# Altium schematic symbol library Design III Symbols.SchLib: 83 symbols (part 2 of 2)
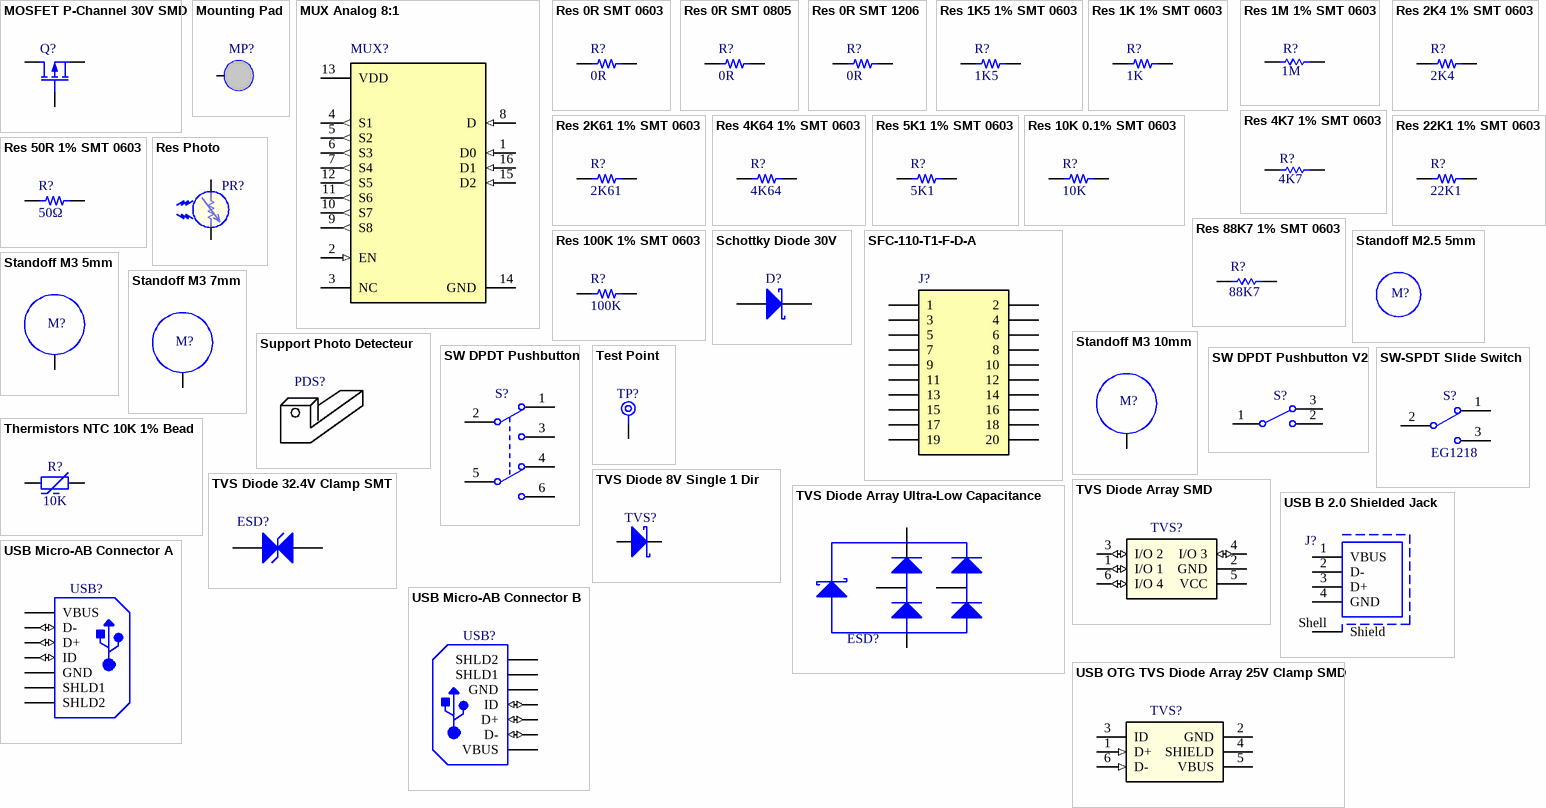
[diagram p3: symbols MOSFET P-Channel 30V SMD to USB OTG TVS Diode Array 25V Clamp SMD]

## Res 50R 1% SMT 0603
designator R?, comment value 50Ω  (hidden comment: CRCW060350R0FKEA)
50Ω ±1% 0.1W, 1/10W Chip Resistor 0603 (1608 Metric) Automotive AEC-Q200 Thick Film; Manufacturer: Vishay Dale; Temperature Coefficient: ±100ppm/°C; Part Number: CRCW060350R0FKEA; ComponentLink1Description: Datasheet; ComponentLink1URL: http://www.vishay.com/docs/20035/dcrcwe3.pdf; ComponentLink2Description: DigiKey Link; ComponentLink2URL: http://digikey.com/product-detail/en/vishay-dale/CRCW060350R0FKEA/541-3318-1-ND/6684924; Composition: Thick Film; Device Package: 0603 (1608 Metric); Features: Automotive AEC-Q200; Height - Seated (Max): 0.020" (0.50mm); LastUpdated: 2023-03-07 20:27:49; Lifecycle Status: Active; Minimum Order: 1; Number of Terminations: 2; Operating Temperature: -55°C ~ 155°C; Package / Case: 0603 (1608 Metric); Packaging: CutTape; PartId: 23780; Part Status: Active; Power (Watts): 0.1W, 1/10W; Price: 0.10; Ratings: AEC-Q200; Resistance: 50Ω; Series: CRCW; Size / Dimension: 0.061" L x 0.033" W (1.55mm x 0.85mm); Supplier Device Package: 0603; Tolerance: ±1%; Supplier 1: Mouser; Supplier Part Number 1: 71-CRCW0603-50-E3
footprint Res 50R SMT 0603 (50O ±1% 0.1W, 1/10W Chip Resistor 0603 (1608 Metric) Automotive AEC-Q200 Thick Film)
pins: 1, 2

## Res 88K7 1% SMT 0603
designator R?, comment Resistance: 88K7  (hidden comment: CRCW060388K7FKEB)
88.7 kΩ ±1% 0.1W, 1/10W Chip Resistor 0603 (1608 Metric) Automotive AEC-Q200 Thick Film; Manufacturer: Vishay Dale; Temperature Coefficient: ±100ppm/°C; Part Number: CRCW060388K7FKEB; ComponentLink1Description: Datasheet; ComponentLink1URL: http://www.vishay.com/docs/20035/dcrcwe3.pdf; ComponentLink2Description: DigiKey Link; ComponentLink2URL: https://www.digikey.com/en/products/detail/vishay-dale/CRCW060388K7FKEB/5073407; Composition: Thick Film; Device Package: 0603 (1608 Metric); Features: Automotive AEC-Q200; Height - Seated (Max): 0.020" (0.50mm); LastUpdated: 2023-03-06 20:27:22; Lifecycle Status: Active; Minimum Order: 1; Number of Terminations: 2; Operating Temperature: -55°C ~ 155°C; Package / Case: 0603 (1608 Metric); Packaging: CutTape; PartId: 56612; Part Status: Active; Power (Watts): 0.1W, 1/10W; Price: 0.01; Ratings: AEC-Q200; Series: CRCW; Size / Dimension: 0.063" L x 0.033" W (1.60mm x 0.85mm); Supplier Device Package: 0603; Tolerance: ±1%; Supplier 1: Digi-Key; Supplier Part Number 1: 541-CRCW060388K7FKEBCT-ND; Supplier 2: Digi-Key; Supplier Part Number 2: 541-CRCW060388K7FKEBDKR-ND
footprint Res 88K7 1% SMT 0603 (88.7 kOhms ±1% 0.1W, 1/10W Chip Resistor 0603 (1608 Metric) Automotive AEC-Q200 Thick Film)
pins: 1, 2

## Res 100K 1% SMT 0603
designator R?, comment value 100K  (hidden comment: AC0603FR-07100KL)
100 kΩ ±1% 0.1W, 1/10W Chip Resistor 0603 (1608 Metric) Automotive AEC-Q200, Moisture Resistant Thick Film; Manufacturer: Yageo; Temperature Coefficient: ±100ppm/°C; Part Number: AC0603FR-07100KL; ComponentLink1Description: Datasheet; ComponentLink1URL: https://www.yageo.com/upload/media/product/productsearch/datasheet/rchip/PYu-AC_51_RoHS_L_7.pdf; ComponentLink2Description: DigiKey Link; ComponentLink2URL: https://www.digikey.com/en/products/detail/yageo/AC0603FR-07100KL/2827813; Composition: Thick Film; Device Package: 0603 (1608 Metric); Features: Automotive AEC-Q200, Moisture Resistant; Height - Seated (Max): 0.022" (0.55mm); LastUpdated: 2023-03-06 20:28:19; Lifecycle Status: Active; Minimum Order: 1; Number of Terminations: 2; Operating Temperature: -55°C ~ 155°C; Package / Case: 0603 (1608 Metric); Packaging: CutTape; PartId: 17350; Part Status: Active; Power (Watts): 0.1W, 1/10W; Price: 0.01; Ratings: AEC-Q200; Resistance: 100K; Series: AC; Size / Dimension: 0.063" L x 0.031" W (1.60mm x 0.80mm); Supplier Device Package: 0603; Tolerance: ±1%; Supplier 1: Digi-Key; Supplier Part Number 1: 311-100KLDCT-ND; Supplier 2: Digi-Key; Supplier Part Number 2: 311-100KLDDKR-ND; Supplier 3: Digi-Key; Supplier Part Number 3: 311-100KLDTR-ND
footprint Resistor Yaego SMT 0603
pins: 1, 2

## Res Photo
designator PR?
Photo Cell
footprint Res Photo
pins: 1, 2

## Schottky Diode 30V
designator D?, comment NSR0530HT1G  (value not drawn)
Schottky Diode 30 V 500mA Surface Mount SOD-323; Manufacturer: ON Semiconductor; Capacitance @ Vr, F: 10pF @ 1V, 1MHz; Current - Average Rectified (Io): 500mA (DC); Current - Reverse Leakage @ Vr: 200µA @ 30V; Speed: Fast Recovery =< 500ns, > 200mA (Io); Voltage - DC Reverse (Vr) (Max): 30V; Voltage - Forward (Vf) (Max) @ If: 620mV @ 500mA; Part Number: NSR0530HT1G; ComponentLink1Description: Datasheet; ComponentLink1URL: http://www.onsemi.com/pub/Collateral/NSR0530H-D.PDF; ComponentLink2Description: DigiKey Link; ComponentLink2URL: http://digikey.com/product-detail/en/on-semiconductor/NSR0530HT1G/NSR0530HT1GOSCT-ND/5761654; Diode Type: Schottky; LastUpdated: 2023-03-06 21:08:52; Lifecycle Status: Active; Minimum Order: 1; Mounting Type: Surface Mount; Operating Temperature - Junction: -55°C ~ 150°C; Package / Case: SC-76, SOD-323; Packaging: TapeAndReel; PartId: 3077; Part Status: Active; Price: 0.03; Series: -; Supplier Device Package: SOD-323; Supplier 1: Digi-Key; Supplier Part Number 1: NSR0530HT1GOSCT-ND; Supplier 2: Digi-Key; Supplier Part Number 2: NSR0530HT1GOSDKR-ND; Supplier 3: Digi-Key; Supplier Part Number 3: NSR0530HT1GOSTR-ND
footprint Schottky Diode 30V SMT (NSR0530HT1G)
pins: 1, 2

## SFC-110-T1-F-D-A
designator J?
Headers & Wire Housings .050 Tiger Eye Cost-Effective Reliable Socket Strip; Pitch: 0.05inch; Number of Contacts: 20; Voltage Rating (AC): 350V; Max Operating Temperature: 125°C; Min Operating Temperature: -55°C; Insulation Material: Polymer; Contact Finish - Mating: Gold; Contact Material: Bronze; Contact Plating: Gold; Row Spacing: 0.05inch; RoHS Compliant: Yes; Fastening Type: Pull; Termination: Solder; Supplier Part Number 1: SAM12821-ND; Supplier 1: Digi-Key
footprint SFC-110-T1-F-D-A (Headers & Wire Housings .050 Tiger Eye Cost-Effective Reliable Socket Strip)
footprint SFC-110-T1-F-D-A-2 (Headers & Wire Housings .050 Tiger Eye Cost-Effective Reliable Socket Strip)
pins: 1, 2, 3, 4, 5, 6, 7, 8, 9, 10, 11, 12, 13, 14, 15, 16, 17, 18, 19, 20

## Standoff M2.5 5mm
designator M?, comment 971050154  (value not drawn)  (no BOM)
Hex Standoff Threaded M2.5 Brass 0.197" (5.00mm) Silver; Supplier 1: Digi-Key; Supplier Part Number 1: 732-12896-ND; ComponentLink1Description: Datasheet; ComponentLink1URL: https://www.we-online.com/components/products/datasheet/971050154.pdf; Thread Size: M2.5
footprint Standoff M2.5 Brass (Hex Standoff Threaded M2.5 Brass 0.197" (5.00mm) Silver)
footprint Standoff M2.5 Pad (Hex Standoff Threaded M2.5 Brass 0.197")

## Standoff M3 5mm
designator M?, comment 971050354  (value not drawn)
Hex Standoff Threaded M3 Brass 0.197" (5.00mm) Silver; Supplier 1: Digi-Key; Supplier Part Number 1: 732-12899-ND
footprint Standoff M3 5mm Brass (Hex Standoff Threaded M3 Brass 0.197" (5.00mm) Silver)
footprint Standoff M3 Pad (Hex Standoff Threaded M3)
pins: 1 CGND (power)

## Standoff M3 7mm
designator M?, comment R30-3000702  (value not drawn)
Hex Standoff Threaded M3x0.5 Brass 0.276" (7.00mm); Supplier 1: Digi-Key; Supplier Part Number 1: 952-1498-ND
footprint Standoff M3 7mm Brass (Hex Standoff Threaded M3x0.5 Brass 0.276" (7.00mm))
footprint Standoff M3 Pad (Hex Standoff Threaded M3)
pins: 1 CGND (power)

## Standoff M3 10mm
designator M?, comment 24337  (value not drawn)  (no BOM)
Hex Standoff Threaded M3 Aluminum 0.394" (10.00mm); Supplier 1: Digi-Key; Supplier Part Number 1: 36-24337-ND; ComponentLink1Description: Datasheet; ComponentLink1URL: https://www.keyelco.com/userAssets/file/M65p76.pdf
footprint Standoff M3 10mm - B (Hex Standoff Threaded M3 Aluminum 0.394" (10.00mm))
footprint Standoff M3 10mm - A (Hex Standoff Threaded M3 Aluminum 0.394" (10.00mm))
pins: 1 CGND (power)

## Support Photo Detecteur
designator PDS?  (no BOM)
Support Photo Detecteur
footprint Support Photo Detecteur D2

## SW DPDT Pushbutton
designator S?, comment TL2230EEF100  (value not drawn)
Pushbutton Switch DPDT Standard Through Hole; Published: 24-Mar-1999; LatestRevisionDate: 29-May-2009; LatestRevisionNote: IPC-7351 Footprint Added.; PackageVersion: Mar-2001; PackageReference: SOT23-6; Publisher: Altium Limited; PackageDescription: 6-Pin SOT-23 Package 0.95 mm Pitch, 2.7 mm Lead Span; Code_JEITA: SC-74; Code_IPC: SOT26A-6; Supplier 1: Digi-Key; Supplier Part Number 1: EG6030-ND
footprint SW DPDT Pushbutton (Pushbutton Switch DPDT Standard Through Hole)
pins: 1 NC1, 2 COM1, 3 NO1, 4 NC2, 5 COM2, 6 NO2

## SW DPDT Pushbutton V2
designator S?, comment TL2230EEF100  (value not drawn)
Pushbutton Switch DPDT Standard Through Hole; Published: 24-Mar-1999; LatestRevisionDate: 29-May-2009; LatestRevisionNote: IPC-7351 Footprint Added.; PackageVersion: Mar-2001; PackageReference: SOT23-6; Publisher: Altium Limited; PackageDescription: 6-Pin SOT-23 Package 0.95 mm Pitch, 2.7 mm Lead Span; Code_JEITA: SC-74; Code_IPC: SOT26A-6; Supplier 1: Digi-Key; Supplier Part Number 1: EG6030-ND
footprint SW DPDT Pushbutton (Pushbutton Switch DPDT Standard Through Hole)
simulation model SPDT_SWITCH (Model Description)
pins: 1 NC1, 2 COM1, 3 NO1

## SW-SPDT Slide Switch
designator S?, comment EG1218
Slide Switch SPDT Through Hole; Supplier 1: Digi-Key; Supplier Part Number 1: EG1903-ND
footprint Slide Switch - A (Slide Switch SPDT Through Hole)
footprint Slide Switch - B (Slide Switch SPDT Through Hole)
pins: 1, 2 COM, 3

## Test Point
designator TP?  (no BOM)
Test Point
footprint SQ Pad (Pad)
footprint Test Point Loop
footprint Test Point Loop +18AWG (Test Point Loop)
pins: 1 TP

## Thermistors NTC 10K 1% Bead
designator R?, comment value 10K  (hidden comment: NTCLE413E2103F524A)
NTC Thermistor 10k Bead, Epoxy; Supplier 1: Digi-Key; Supplier Part Number 1: 56-NTCLE413E2103F524A-ND; ComponentLink1Description: Datasheet; ComponentLink1URL: https://www.vishay.com/docs/29078/ntcle413.pdf
footprint Thermistors NTC 10K 1% Bead - A (NTC Thermistor 10k Bead, Epoxy)
footprint Thermistors NTC 10K 1% Bead - B (NTC Thermistor 10k Bead, Epoxy)
pins: 1, 2

## TVS Diode 8V Single 1 Dir
designator TVS?, comment PTVS3V3S1UR,115  (value not drawn)
8V Clamp 43.8A Ipp Tvs Diode Surface Mount SOD-123W; Supplier 1: Digi-Key; Supplier Part Number 1: 1727-5228-1-ND; Supplier 2: Digi-Key; Supplier Part Number 2: 1727-5228-6-ND; Supplier 3: Digi-Key; Supplier Part Number 3: 1727-5228-2-ND
footprint TVS Diode 8V Single 1 Dir (8V Clamp 43.8A Ipp Tvs Diode Surface Mount SOD-123W)
pins: 1 K, 2 A

## TVS Diode 32.4V Clamp SMT
designator ESD?, comment SMBJ20CA  (value not drawn)
32.4V Clamp 18.6A Ipp Tvs Diode Surface Mount SMB (DO-214AA); Max Power Dissipation: 600W; Diode Type: Zener; Element Configuration: Single; Reverse Standoff Voltage: 20V; Direction: Bidirectional; Max Breakdown Voltage: 25.5V; Min Breakdown Voltage: 22.2V; Max Surge Current: 100A; Peak Pulse Current: 18.6A; ComponentLink1Description: Datasheet; ComponentLink1URL: https://www.bourns.com/docs/Product-Datasheets/SMBJ.pdf; Supplier 1: Digi-Key; Supplier Part Number 1: SMBJ20CABCT-ND; Supplier 2: Digi-Key; Supplier Part Number 2: SMBJ20CABDKR-ND
footprint SMBJ20CA (32.4V Clamp 18.6A Ipp Tvs Diode Surface Mount SMB (DO-214AA))
pins: 1, 2

## TVS Diode Array SMD
designator TVS?, comment RCLAMP0504FA.TCT  (value not drawn)
25V Clamp 6A (8/20µs) Ipp Tvs Diode Surface Mount SC-70-6; Supplier 1: Digi-Key; Supplier Part Number 1: RCLAMP0504FATCTCT-ND; Supplier 2: Digi-Key; Supplier Part Number 2: RCLAMP0504FATCTDKR-ND; Supplier 3: Digi-Key; Supplier Part Number 3: RCLAMP0504FATCTTR-ND
footprint RCLAMP0504FA.TCT
pins: 1 I/O 1 (io), 2 GND (power), 3 I/O 2 (io), 4 I/O 3 (io), 5 VCC (power), 6 I/O 4 (io)

## TVS Diode Array Ultra-Low Capacitance
designator ESD?, comment PRTR5V0U2X,215  (value not drawn)
Clamp Ipp Tvs Diode Surface Mount SOT-143B; Supplier 1: Digi-Key; Supplier Part Number 1: 1727-3884-1-ND; Supplier 2: Digi-Key; Supplier Part Number 2: 1727-3884-6-ND; Supplier 3: Digi-Key; Supplier Part Number 3: 1727-3884-2-ND
footprint TVS Diode Array Ultra-Low Capacitance (Clamp Ipp Tvs Diode Surface Mount SOT-143B)
pins: 1 GND, 2 I/O 1, 3 I/O 2, 4 VCC

## USB B 2.0 Shielded Jack
designator J?, comment 61400413321  (value not drawn)
Straight PCB Mount Mount Female Type B USB Connector; 30 V ac; 1.5A; Manufacturer Part Number: 61400413321; Supplier 1: Digi-Key; Supplier Part Number 1: 732-2734-ND
footprint USB B 2.0 Shielded Jack (Straight PCB Mount Mount Female Type B USB Connector; 30 V ac; 1.5A)
pins: 1 VBUS, 2 D-, 3 D+, 4 GND, Shell Shield

## USB Micro-AB Connector A
designator USB?, comment USB3106-30-0230-A  (value not drawn)
USB - Micro AB 2.0 Receptacle Connector 5 Position, Vertical, Through Hole with 2.30 mm (Standard) Shell Stakes, 5-Pin THD, RoHS, Tape and Reel; Supplier 1: Newark; Supplier Part Number 1: 18X0232
footprint USB Micro-AB Connector B (USB - Micro AB 2.0 Receptacle Connector 5 Position, Vertical, Through Hole with 2.30 mm (Standard) Shell Stakes, 5-Pin THD, RoHS, Tape and Reel)
pins: 1 VBUS (power), 2 D- (io), 3 D+ (io), 4 ID (io), 5 GND (power), 6 SHLD1 (power), 7 SHLD2 (power)

## USB Micro-AB Connector B
designator USB?, comment USB3106-30-0230-A  (value not drawn)
USB - Micro AB 2.0 Receptacle Connector 5 Position, Vertical, Through Hole with 2.30 mm (Standard) Shell Stakes, 5-Pin THD, RoHS, Tape and Reel; Supplier 1: Newark; Supplier Part Number 1: 18X0232
footprint USB Micro-AB Connector B (USB - Micro AB 2.0 Receptacle Connector 5 Position, Vertical, Through Hole with 2.30 mm (Standard) Shell Stakes, 5-Pin THD, RoHS, Tape and Reel)
pins: 1 VBUS (power), 2 D- (io), 3 D+ (io), 4 ID (io), 5 GND (power), 6 SHLD1 (power), 7 SHLD2 (power)

## USB OTG TVS Diode Array 25V Clamp SMD
designator TVS?, comment RCLAMP0504FA.TCT  (value not drawn)
25V Clamp 6A (8/20µs) Ipp Tvs Diode Surface Mount SC-70-6; Supplier 1: Digi-Key; Supplier Part Number 1: RCLAMP0504FATCTCT-ND; Supplier 2: Digi-Key; Supplier Part Number 2: RCLAMP0504FATCTDKR-ND; Supplier 3: Digi-Key; Supplier Part Number 3: RCLAMP0504FATCTTR-ND
footprint RCLAMP0504FA.TCT
pins: 1 D+ (in), 2 GND (power), 3 ID, 4 SHIELD (power), 5 VBUS (power), 6 D- (in)

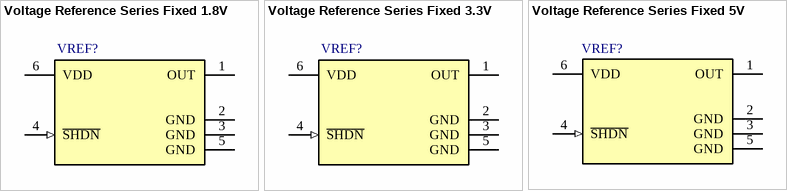
[diagram p2: symbols Voltage Reference Series Fixed 1.8V to Voltage Reference Series Fixed 5V]

## Voltage Reference Series Fixed 1.8V
designator VREF?, comment MCP1501T-18E/CHY  (value not drawn)
Series Voltage Reference IC Fixed 1.8V V ±0.1% 20 mA SOT-23-6; Temperature Coefficient: 50ppm/°C; Output Current: 20mA; Tolerance: 0.08%; Operating Supply Current: 550μA; ComponentLink1Description: Datasheet; ComponentLink1URL: https://ww1.microchip.com/downloads/aemDocuments/documents/MSLD/ProductDocuments/DataSheets/MCP1501-Data-Sheet-DS20005474F.pdf; Reference Type: Series; Case/Package: SOT-23-6; Output Type: Fixed; Min Output Voltage: 1.8V; Min Operating Temperature: -40°C; Max Operating Temperature: 125°C; Supplier 1: Digi-Key; Supplier Part Number 1: MCP1501T-18E/CHYCT-ND; Supplier 2: Digi-Key; Supplier Part Number 2: MCP1501T-18E/CHYDKR-ND
footprint MCP1501T-XXE/CHY (Series Voltage Reference IC Fixed V ±0.1% 20 mA SOT-23-6)
pins: 1 OUT (power), 2 GND (power), 3 GND (power), 4 ~{SHDN} (in), 5 GND (power), 6 VDD (power)

## Voltage Reference Series Fixed 3.3V
designator VREF?, comment MCP1501T-33E/CHY  (value not drawn)
Series Voltage Reference IC Fixed 3.3V V ±0.1% 20 mA SOT-23-6; Temperature Coefficient: 50ppm/°C; Output Current: 20mA; Tolerance: 0.08%; Operating Supply Current: 550μA; ComponentLink1Description: Datasheet; ComponentLink1URL: https://ww1.microchip.com/downloads/aemDocuments/documents/MSLD/ProductDocuments/DataSheets/MCP1501-Data-Sheet-DS20005474F.pdf; Reference Type: Series; Case/Package: SOT-23-6; Output Type: Fixed; Min Output Voltage: 3.3V; Min Operating Temperature: -40°C; Max Operating Temperature: 125°C; Supplier 1: Digi-Key; Supplier Part Number 1: MCP1501T-33E/CHYCT-ND; Supplier 2: Digi-Key; Supplier Part Number 2: MCP1501T-33E/CHYDKR-ND; Supplier 3: Digi-Key; Supplier Part Number 3: MCP1501T-33E/CHYTR-ND
footprint MCP1501T-XXE/CHY (Series Voltage Reference IC Fixed V ±0.1% 20 mA SOT-23-6)
pins: 1 OUT (power), 2 GND (power), 3 GND (power), 4 ~{SHDN} (in), 5 GND (power), 6 VDD (power)

## Voltage Reference Series Fixed 5V
designator VREF?, comment MCP1501T-50E/CHY  (value not drawn)
Series Voltage Reference IC Fixed 5V V ±0.1% 20 mA SOT-23-6; Supplier 1: Digi-Key; Supplier Part Number 1: 150-MCP1501T-50E/CHYCT-ND; Supplier 2: Digi-Key; Supplier Part Number 2: 150-MCP1501T-50E/CHYDKR-ND; Supplier 3: Digi-Key; Supplier Part Number 3: 150-MCP1501T-50E/CHYTR-ND
footprint MCP1501T-XXE/CHY (Series Voltage Reference IC Fixed V ±0.1% 20 mA SOT-23-6)
pins: 1 OUT (power), 2 GND (power), 3 GND (power), 4 ~{SHDN} (in), 5 GND (power), 6 VDD (power)